# Altium footprint library H71V2.PcbLib: 34 footprints (part 2 of 3)
Each footprint in its own frame and in the unit in brackets; x right, y up, seen from the top. Pads: shape width x height; smd on the part's side, far side on the other; paste and mask are expansions set on the pad; w line width, h text height; cw(c..) or ccw(c..) is an arc to the next point about the centre after c.
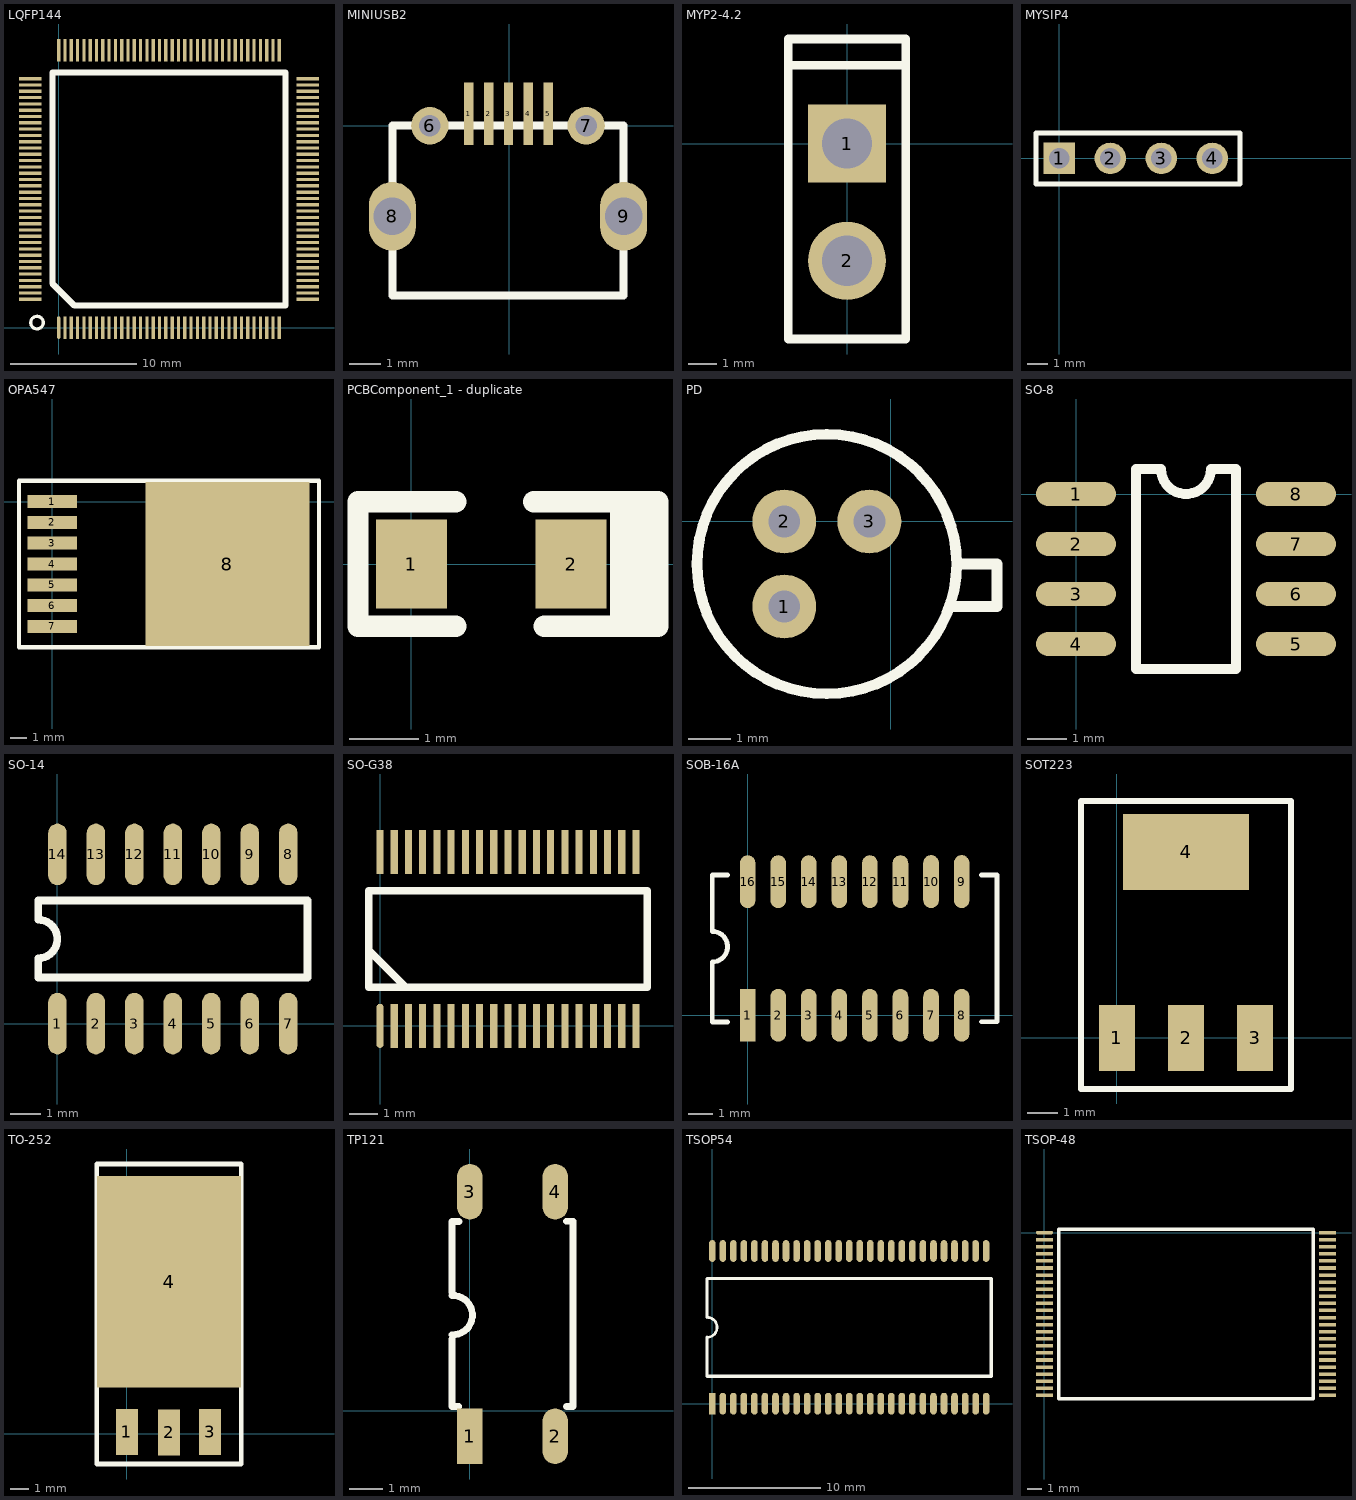
[diagram p1: the footprints below, top view; thin cyan lines are the x and y axes]

## LQFP144 [mm]
pads (144):
  oval 0.254x1.8 smd: 1(0,0)
  rect 0.254x1.8 smd: 2(0.5,0) 3(1,0) 4(1.5,0) 5(2,0) 6(2.5,0) 7(3,0) 8(3.5,0) 9(4,0) 10(4.5,0) 11(5,0) 12(5.5,0) 13(6,0) 14(6.5,0) 15(7,0) 16(7.5,0) 17(8,0) 18(8.5,0) 19(9,0) 20(9.5,0) 21(10,0) 22(10.5,0) 23(11,0) 24(11.5,0) 25(12,0) 26(12.5,0) 27(13,0) 28(13.5,0) 29(14,0) 30(14.5,0) 31(15,0) 32(15.5,0) 33(16,0) 34(16.5,0) 35(17,0) 36(17.5,0) 73(17.5,22) 74(17,22) 75(16.5,22) 76(16,22) 77(15.5,22) 78(15,22) 79(14.5,22) 80(14,22) 81(13.5,22) 82(13,22) 83(12.5,22) 84(12,22) 85(11.5,22) 86(11,22) 87(10.5,22) 88(10,22) 89(9.5,22) 90(9,22) 91(8.5,22) 92(8,22) 93(7.5,22) 94(7,22) 95(6.5,22) 96(6,22) 97(5.5,22) 98(5,22) 99(4.5,22) 100(4,22) 101(3.5,22) 102(3,22) 103(2.5,22) 104(2,22) 105(1.5,22) 106(1,22) 107(0.5,22) 108(0,22)
  rect 1.8x0.254 smd: 37(19.75,2.25) 38(19.75,2.75) 39(19.75,3.25) 40(19.75,3.75) 41(19.75,4.25) 42(19.75,4.75) 43(19.75,5.25) 44(19.75,5.75) 45(19.75,6.25) 46(19.75,6.75) 47(19.75,7.25) 48(19.75,7.75) 49(19.75,8.25) 50(19.75,8.75) 51(19.75,9.25) 52(19.75,9.75) 53(19.75,10.25) 54(19.75,10.75) 55(19.75,11.25) 56(19.75,11.75) 57(19.75,12.25) 58(19.75,12.75) 59(19.75,13.25) 60(19.75,13.75) 61(19.75,14.25) 62(19.75,14.75) 63(19.75,15.25) 64(19.75,15.75) 65(19.75,16.25) 66(19.75,16.75) 67(19.75,17.25) 68(19.75,17.75) 69(19.75,18.25) 70(19.75,18.75) 71(19.75,19.25) 72(19.75,19.75) 109(-2.25,19.75) 110(-2.25,19.25) 111(-2.25,18.75) 112(-2.25,18.25) 113(-2.25,17.75) 114(-2.25,17.25) 115(-2.25,16.75) 116(-2.25,16.25) 117(-2.25,15.75) 118(-2.25,15.25) 119(-2.25,14.75) 120(-2.25,14.25) 121(-2.25,13.75) 122(-2.25,13.25) 123(-2.25,12.75) 124(-2.25,12.25) 125(-2.25,11.75) 126(-2.25,11.25) 127(-2.25,10.75) 128(-2.25,10.25) 129(-2.25,9.75) 130(-2.25,9.25) 131(-2.25,8.75) 132(-2.25,8.25) 133(-2.25,7.75) 134(-2.25,7.25) 135(-2.25,6.75) 136(-2.25,6.25) 137(-2.25,5.75) 138(-2.25,5.25) 139(-2.25,4.75) 140(-2.25,4.25) 141(-2.25,3.75) 142(-2.25,3.25) 143(-2.25,2.75) 144(-2.25,2.25)
Top Overlay:
  circle w0.254: c-1.724,0.4 r0.5
  lines w0.5: -0.5,3.5 -0.5,20.25 18,20.25 18,1.75 1.25,1.75 -0.5,3.5

## MINIUSB2 [mm]
pads (9):
  rect 0.3x2 smd: 1(-1.295,0.39) 2(-0.66,0.39) 3(-0.025,0.39) 4(0.61,0.39) 5(1.245,0.39)
  round 1.2 hole 0.686: 6(-2.54,0) 7(2.46,0)
  oval 1.5x2.2 hole 1.2: 8(-3.74,-2.9) 9(3.66,-2.9)
Top Overlay:
  lines w0.254: -3.74,-5.44 -3.74,0 3.66,0 3.66,-5.44 -3.74,-5.44

## MYP2-4.2 [mil]
pads (2):
  rect 110x110 hole 71: 1(0,0)
  round 110 hole 71: 2(0,-165.35)
Top Overlay:
  lines w12: -82.68,110.24 82.68,110.24 ; -82.68,110.24 -82.68,-275.59 82.68,-275.59 82.68,110.24 ; -82.68,110.24 -82.68,147.32 82.68,147.32 82.68,110.24

## MYSIP4 [mil]
pads (4):
  rect 62x62 hole 40: 1(0,0)
  round 62 hole 40: 2(100,0) 3(200,0) 4(300,0)
Top Overlay:
  lines w10: -46,-50 354,-50 354,50 -46,50 -46,-50

## OPA547 [mm]
pads (8):
  rect 3x0.8 smd: 1(0,0) 2(0,-1.27) 3(0,-2.54) 4(0,-3.81) 5(0,-5.08) 6(0,-6.35) 7(0,-7.62)
  rect 10x10 smd: 8(10.668,-3.81)
Top Overlay:
  lines w0.254: -2.032,-8.89 16.256,-8.89 16.256,1.27 -2.032,1.27 -2.032,-8.89

## PCBComponent_1 - duplicate [mil]
pads (2):
  rect 40x50 smd: 1(0,0) 2(90,0)
Top Overlay:
  lines w10: 117,-32 117,33
  lines w12: 25,-35 -30,-35 -30,35 25,35 ; 69,35 139,35 139,-35 75,-35 ; 128,-35 128,35

## PD [mil]
pads (3):
  round 60 hole 30: 1(-100,-80) 2(-100,0) 3(-20,0)
Top Overlay:
  circle w10: c-60,-40 r122.05
  lines w10: 60,-80 100,-80 100,-40 62.05,-40

## SO-8 [mil]
pads (8):
  oval 80x24 smd: 1(0,0) 2(0,-50) 3(0,-100) 4(0,-150) 5(220,-150) 6(220,-100) 7(220,-50) 8(220,0)
Top Overlay:
  lines w10: 60,-175 60,25 85,25 ccw(c110,25) 135,25 160,25 160,-175 60,-175

## SO-14 [mil]
pads (14):
  oval 24x80 smd: 1(0,0) 2(50,0) 3(100,0) 4(150,0) 5(200,0) 6(250,0) 7(300,0) 8(300,220) 9(250,220) 10(200,220) 11(150,220) 12(100,220) 13(50,220) 14(0,220)
Top Overlay:
  lines w10: -25,60 325,60 325,160 -25,160 -25,135 cw(c-25,110) -25,85 -25,60

## SO-G38 [mm]
pads (38):
  oval 0.25x1.55 smd: 1(0,0)
  rect 0.25x1.55 smd: 2(0.5,0) 3(1,0) 4(1.5,0) 5(2,0) 6(2.5,0) 7(3,0) 8(3.5,0) 9(4,0) 10(4.5,0) 11(5,0) 12(5.5,0) 13(6,0) 14(6.5,0) 15(7,0) 16(7.5,0) 17(8,0) 18(8.5,0) 19(9,0) 20(9,6.108) 21(8.5,6.108) 22(8,6.108) 23(7.5,6.108) 24(7,6.108) 25(6.5,6.108) 26(6,6.108) 27(5.5,6.108) 28(5,6.108) 29(4.5,6.108) 30(4,6.108) 31(3.5,6.108) 32(3,6.108) 33(2.5,6.108) 34(2,6.108) 35(1.5,6.108) 36(1,6.108) 37(0.5,6.108) 38(0,6.108)
Top Overlay:
  lines w0.254: -0.4,2.654 0.9,1.354 ; -0.4,1.354 -0.4,4.754 9.4,4.754 9.4,1.354 -0.4,1.354

## SOB-16A [mm]
pads (16):
  rect 0.65x2.2 smd: 1(0,0)
  oval 0.65x2.2 smd: 2(1.27,0) 3(2.54,0) 4(3.81,0) 5(5.08,0) 6(6.35,0) 7(7.62,0) 8(8.89,0) 9(8.89,5.553) 10(7.62,5.553) 11(6.35,5.549) 12(5.08,5.549) 13(3.81,5.549) 14(2.54,5.549) 15(1.27,5.549) 16(0,5.549)
Top Overlay:
  lines w0.2: -0.825,-0.275 -1.47,-0.275 -1.47,2.216 ccw(c-1.47,2.851) -1.47,3.486 -1.47,5.824 -0.825,5.824 ; 9.715,-0.271 10.36,-0.271 10.36,5.828 9.715,5.828

## SOT223 [mm]
pads (4):
  rect 1.2x2.2 smd: 1(0,0) 2(2.3,0) 3(4.6,0)
  rect 4.191x2.54 smd: 4(2.3,6.2)
Top Overlay:
  lines w0.2: -1.2,-1.7 5.8,-1.7 5.8,7.9 -1.2,7.9 -1.2,-1.7

## TO-252 [mm]
pads (4):
  rect 1.2x2.5 smd: 1(0.017,0.109) 2(2.317,0.085) 3(4.567,0.109)
  rect 7.874x11.54 smd: 4(2.317,8.301)
Top Overlay:
  lines w0.254: -1.633,-1.641 6.267,-1.641 6.267,14.725 -1.633,14.725 -1.633,-1.641

## TP121 [mil]
pads (4):
  rect 30x65 smd: 1(0,-30)
  oval 30x65 smd: 2(100,-30) 3(0,256.67) 4(100,256.67)
Top Overlay:
  lines w8: -21.1,221.6 -12.77,221.6 ; -20.95,135.02 cw(c-20,112) -20.81,88.97 ; -20.87,84.13 -20.87,5 -13,5 ; -20.87,138.86 -20.87,221.53 ; 113.13,5 121,5 ; 113.13,222 121,222 ; 120.87,5 120.87,221.67

## TSOP54 [mm]
pads (54):
  rect 0.5x1.651 smd: 1(0,0)
  oval 0.5x1.651 smd: 2(0.8,0) 3(1.6,0) 4(2.4,0) 5(3.2,0) 6(4,0) 7(4.8,0) 8(5.6,0) 9(6.4,0) 10(7.2,0) 11(8,0) 12(8.8,0) 13(9.6,0) 14(10.4,0) 15(11.2,0) 16(12,0) 17(12.8,0) 18(13.6,0) 19(14.4,0) 20(15.2,0) 21(16,0) 22(16.8,0) 23(17.6,0) 24(18.4,0) 25(19.2,0) 26(20,0) 27(20.8,0) 28(20.8,11.6) 29(20,11.6) 30(19.2,11.6) 31(18.4,11.6) 32(17.6,11.6) 33(16.8,11.6) 34(16,11.6) 35(15.2,11.6) 36(14.4,11.6) 37(13.6,11.6) 38(12.8,11.6) 39(12,11.6) 40(11.2,11.6) 41(10.4,11.6) 42(9.6,11.6) 43(8.8,11.6) 44(8,11.6) 45(7.2,11.6) 46(6.4,11.6) 47(5.6,11.6) 48(4.8,11.6) 49(4,11.6) 50(3.2,11.6) 51(2.4,11.6) 52(1.6,11.6) 53(0.8,11.6) 54(0,11.6)
Top Overlay:
  lines w0.203: -0.4,5.038 ccw(c-0.4,5.8) -0.4,6.562
  lines w0.254: -0.4,5.038 -0.4,2.085 21.2,2.085 21.2,9.515 -0.4,9.515 -0.4,6.562

## TSOP-48 [mm]
pads (48):
  oval 1.2x0.25 smd: 1(0,0)
  rect 1.2x0.25 smd: 2(0,-0.5) 3(0,-1) 4(0,-1.5) 5(0,-2) 6(0,-2.5) 7(0,-3) 8(0,-3.5) 9(0,-4) 10(0,-4.5) 11(0,-5) 12(0,-5.5) 13(0,-6) 14(0,-6.5) 15(0,-7) 16(0,-7.5) 17(0,-8) 18(0,-8.5) 19(0,-9) 20(0,-9.5) 21(0,-10) 22(0,-10.5) 23(0,-11) 24(0,-11.5) 25(20,-11.5) 26(20,-11) 27(20,-10.5) 28(20,-10) 29(20,-9.5) 30(20,-9) 31(20,-8.5) 32(20,-8) 33(20,-7.5) 34(20,-7) 35(20,-6.5) 36(20,-6) 37(20,-5.5) 38(20,-5) 39(20,-4.5) 40(20,-4) 41(20,-3.5) 42(20,-3) 43(20,-2.5) 44(20,-2) 45(20,-1.5) 46(20,-1) 47(20,-0.5) 48(20,0)
Top Overlay:
  lines w0.254: 1,-11.75 19,-11.75 19,0.25 1,0.25 1,-11.75